# Altium schematic symbol library Crystal_Oscillators.SchLib: 3 symbols
Pins are listed as number, name and electrical type; pins without a type are passive.

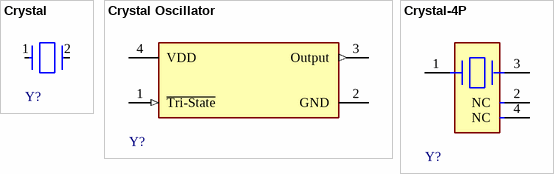
[diagram p0: symbols Crystal to Crystal-4P]

## Crystal
designator Y?
footprint Crystal_SMD_2.5mm
footprint Crystal_SMD_3.2x1.5
footprint Crystal_SMD_6x3.6
footprint HC-49U
footprint HC-49US
pins: 1, 2

## Crystal Oscillator
designator Y?
footprint Crystal-4P_SMD_2x1.6
pins: 1 ~{Tri-State} (in), 2 GND (power), 3 Output (out), 4 VDD (power)

## Crystal-4P
designator Y?
footprint Crystal-4P_SMD_3.2x2.5
footprint Crystal-4P_SMD_5x32
footprint Crystal-4P_SMD_2x1.6
pins: 1 1 HOT, 2 NC, 3 2 HOT, 4 NC